# Altium footprint library PC817-B.PcbLib: 2 footprints
Each footprint in its own frame and in the unit in brackets; x right, y up, seen from the top. Pads: shape width x height; smd on the part's side, far side on the other; paste and mask are expansions set on the pad; w line width, h text height; cw(c..) or ccw(c..) is an arc to the next point about the centre after c.
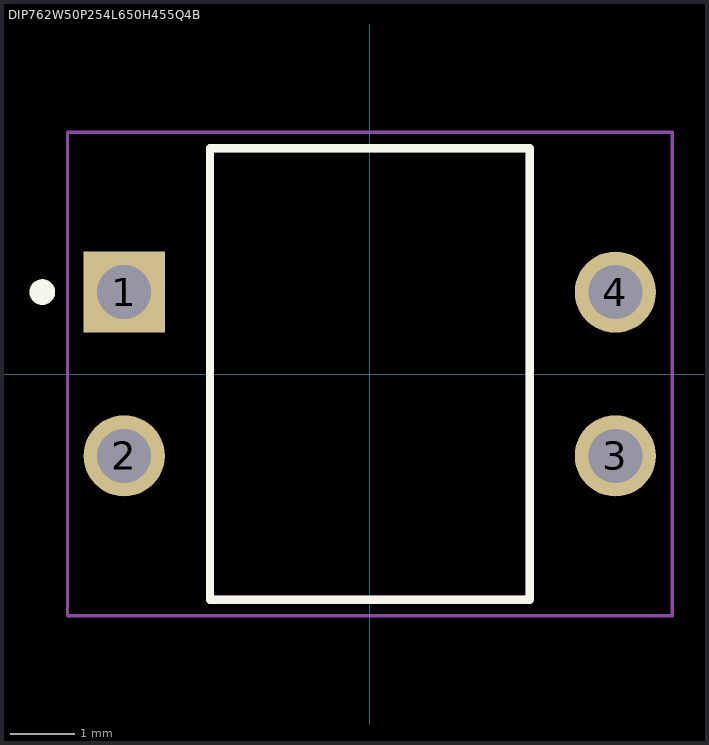
[diagram p0: the footprints below, top view; thin cyan lines are the x and y axes]

## DIP762W50P254L650H455Q4B [mm]
pads (4):
  rect 1.26x1.26 hole 0.84: 1(-3.81,1.27)
  round 1.26 hole 0.84: 2(-3.81,-1.27) 3(3.81,-1.27) 4(3.81,1.27)
Top Overlay:
  circle w0.2: c-5.08,1.27 r0.1
  lines w0.127: -2.48,-3.5 2.48,-3.5 2.48,3.5 -2.48,3.5 -2.48,-3.5
Mechanical 13:
  lines w0.127: -2.48,-3.5 -2.48,3.5 2.48,3.5 2.48,-3.5 -2.48,-3.5
Mechanical 15:
  lines w0.05: -4.69,-3.75 4.69,-3.75 4.69,3.75 -4.69,3.75 -4.69,-3.75
3D body "step_temp.STEP": height 4.8, standoff -3.2, extent -2.29,-3.96 2.29,3.96

## PCBComponent_1 [mil]